# Altium schematic symbol library Schlib1.SchLib: 14 symbols
Pins are listed as number, name and electrical type; pins without a type are passive.

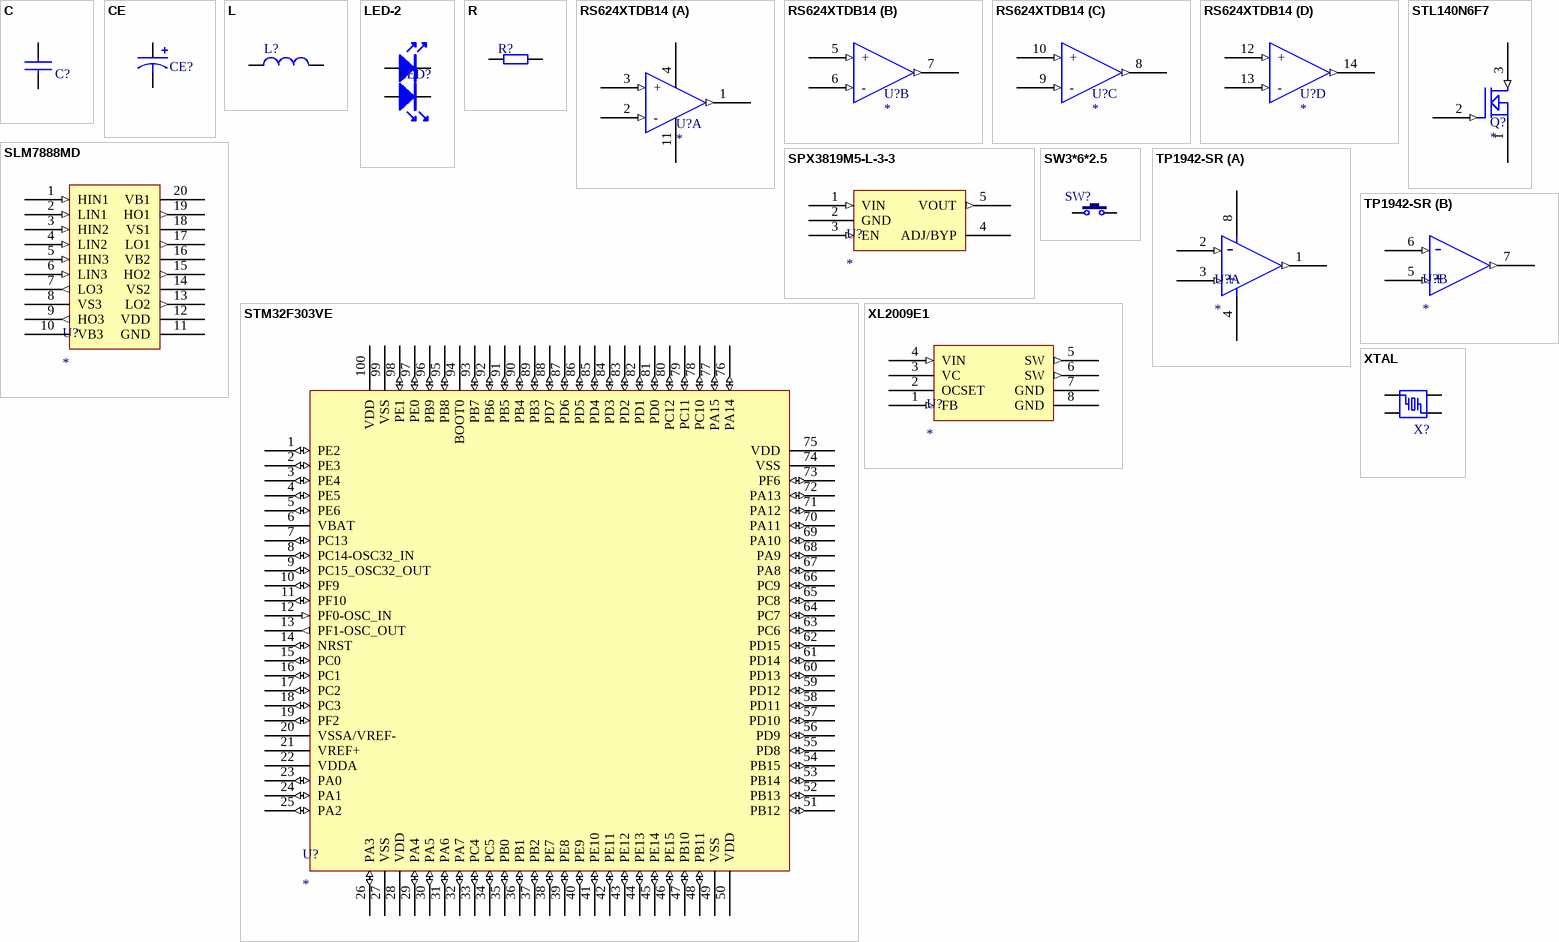
[diagram p0: symbols C to XTAL]

## C
designator C?
贴片电容; Coding: 41170010
footprint C0603
footprint C0805
footprint C1206
pins: 1, 2

## CE
designator CE?
电解电容
pins: 1, 2

## L
designator L?
电感
pins: 1, 2

## LED-2
designator LED?
LED
footprint LED0603-2
pins: 1, 2, 3, 4

## R
designator R?
贴片电阻; Coding: 41180035
footprint R0603
footprint R0805
footprint R2512
pins: 1, 2

## RS624XTDB14
designator U?
差分电路采样
footprint TDFN-14
part A pins: 1 O (out), 2 - (in), 3 + (in), 4 V+ (power), 11 V- (power)
part B pins: 5 + (in), 6 - (in), 7 O (out)
part C pins: 8 O (out), 9 - (in), 10 + (in)
part D pins: 12 + (in), 13 - (in), 14 O (out)
1 alternate drawing of the same symbol

## SLM7888MD
designator U?
输出驱动
footprint TSSOP-20
pins: 1 HIN1 (in), 2 LIN1 (in), 3 HIN2 (in), 4 LIN2 (in), 5 HIN3 (in), 6 LIN3 (in), 7 LO3 (out), 8 VS3, 9 HO3 (out), 10 VB3, 11 GND (power), 12 VDD (power), 13 LO2 (out), 14 VS2, 15 HO2 (out), 16 VB2, 17 LO1 (out), 18 VS1, 19 HO1 (out), 20 VB1

## SPX3819M5-L-3-3
designator U?
5V->3.3V
footprint SOT-23-5
pins: 1 VIN (in), 2 GND (power), 3 EN (in), 4 ADJ/BYP, 5 VOUT (out)

## STL140N6F7
designator Q?
NMOS
footprint PQFN-8
pins: 1 S, 2 G (in), 3 D (in)

## STM32F303VE
designator U?
主控
footprint LQFP-100
pins: 1 PE2 (io), 2 PE3 (io), 3 PE4 (io), 4 PE5 (io), 5 PE6 (io), 6 VBAT (power), 7 PC13 (io), 8 PC14-OSC32_IN (io), 9 PC15_OSC32_OUT (io), 10 PF9 (io), 11 PF10 (io), 12 PF0-OSC_IN (in), 13 PF1-OSC_OUT (out), 14 NRST (io), 15 PC0 (io), 16 PC1 (io), 17 PC2 (io), 18 PC3 (io), 19 PF2 (io), 20 VSSA/VREF- (power), 21 VREF+ (power), 22 VDDA (power), 23 PA0 (io), 24 PA1 (io), 25 PA2 (io), 26 PA3 (io), 27 VSS (power), 28 VDD (power), 29 PA4 (io), 30 PA5 (io), 31 PA6 (io), 32 PA7 (io), 33 PC4 (io), 34 PC5 (io), 35 PB0 (io), 36 PB1 (io), 37 PB2 (io), 38 PE7 (io), 39 PE8 (io), 40 PE9 (io), 41 PE10 (io), 42 PE11 (io), 43 PE12 (io), 44 PE13 (io), 45 PE14 (io), 46 PE15 (io), 47 PB10 (io), 48 PB11 (io), 49 VSS (power), 50 VDD (power), 51 PB12 (io), 52 PB13 (io), 53 PB14 (io), 54 PB15 (io), 55 PD8 (io), 56 PD9 (io), 57 PD10 (io), 58 PD11 (io), 59 PD12 (io), 60 PD13 (io), 61 PD14 (io), 62 PD15 (io), 63 PC6 (io), 64 PC7 (io), 65 PC8 (io), 66 PC9 (io), 67 PA8 (io), 68 PA9 (io), 69 PA10 (io), 70 PA11 (io), 71 PA12 (io), 72 PA13 (io), 73 PF6 (io), 74 VSS (power), 75 VDD (power), 76 PA14 (io), 77 PA15 (io), 78 PC10 (io), 79 PC11 (io), 80 PC12 (io), 81 PD0 (io), 82 PD1 (io), 83 PD2 (io), 84 PD3 (io), 85 PD4 (io), 86 PD5 (io), 87 PD6 (io), 88 PD7 (io), 89 PB3 (io), 90 PB4 (io), 91 PB5 (io), 92 PB6 (io), 93 PB7 (io), 94 BOOT0, 95 PB8 (io), 96 PB9 (io), 97 PE0 (io), 98 PE1 (io), 99 VSS (power), 100 VDD (power)

## SW3*6*2.5
designator SW?
3*6*2.5轻触开关; BOM名称: 直插6x6轻触开关; 版权归属: 源创客; 学习资源: www.ooocke.com
footprint SMD-3*6*2.5
pins: 1, 2

## TP1942-SR
designator U?
过流保护
footprint SOIC-8
part A pins: 1 O (out), 2 - (in), 3 + (in), 4 V- (power), 8 V+ (power)
part B pins: 5 + (in), 6 - (in), 7 O (out)

## XL2009E1
designator U?
VIN->12V->5V
footprint SOIC-8
pins: 1 FB (in), 2 OCSET, 3 VC, 4 VIN (in), 5 SW (out), 6 SW (out), 7 GND (power), 8 GND (power)

## XTAL
designator X?
晶振; Coding: 41230021
footprint SMD3225-4P
pins: 1, 2, 3, 4